# EAGLE library part 503182-1852_503182-1852 (library GabozeExpress)
Conn Micro SD Card M 8 POS 1.09mm Solder RA SMD Embossed T/R 0.5A/Contact
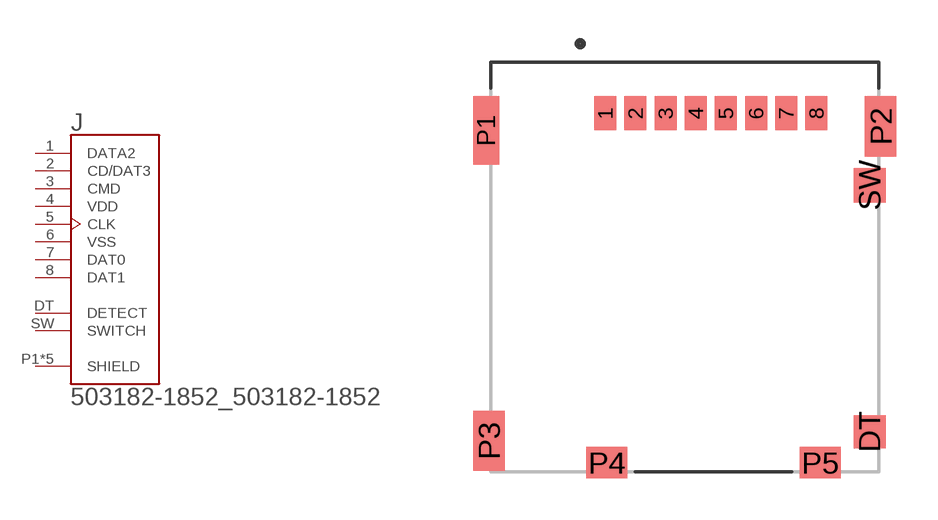
[diagram p0: symbol with the pads of -503182-1852_MOLEX_503182-1852; footprint -503182-1852_MOLEX_503182-1852]

Designator prefix J

## 503182-1852_503182-1852 (DESCRIPTION: MICRO SD NORMAL ULTRALOWPRO8CKTE; DIGI-KEY_PART_NUMBER: WM12834CT-ND; DIGI-KEY_PURCHASE_URL: https://www.digikey.ca/product-detail/en/molex/5031821852/WM12834CT-ND/5823232?utm_source=snapeda&utm_medium=aggregator&utm_campaign=symbol; MF: Molex; MP: 5031821852; PACKAGE: None)  [-503182-1852_MOLEX_503182-1852]
1  DATA2
2  CD/DAT3
3  CMD
4  VDD  pwr
5  CLK
6  VSS  pwr
7  DAT0
8  DAT1
DT  DETECT
P1  SHIELD  pas
P2  SHIELD  pas
P3  SHIELD  pas
P4  SHIELD  pas
P5  SHIELD  pas
SW  SWITCH

## Footprint -503182-1852_MOLEX_503182-1852 (pad centres in mm)
smd 0.8 x 1.24: 1 -2.9,6.355; 2 -1.8,6.355; 3 -0.7,6.355; 4 0.4,6.355; 5 1.5,6.355; 6 2.6,6.355; 7 3.7,6.355; 8 4.8,6.355
smd 1.16 x 1.2: DT 6.74,-5.275
smd 0.95 x 2.5: P1 -7.245,5.725
smd 1.15 x 2.2: P2 7.145,5.875; P3 -7.145,-5.605
smd 1.5 x 1.15: P4 -2.84,-6.4; P5 4.94,-6.4
smd 1.16 x 1.25: SW 6.74,3.725